# Altium schematic symbol library RF.Transformers.SchLib: 7 symbols
Pins are listed as number, name and electrical type; pins without a type are passive.

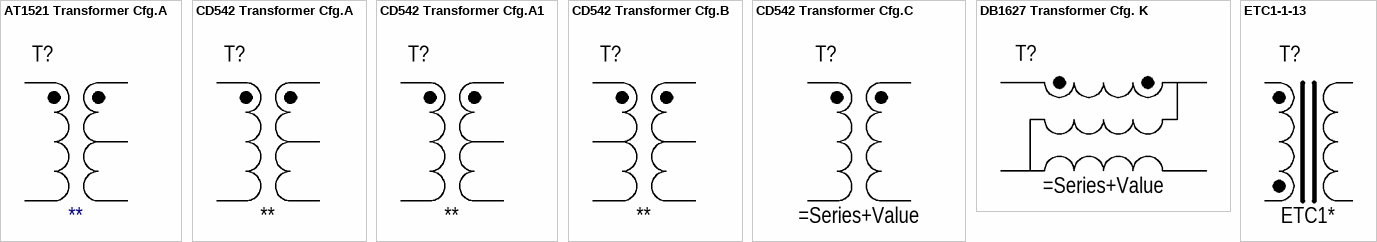
[diagram p0: symbols AT1521 Transformer Cfg.A to ETC1-1-13]

## AT1521 Transformer Cfg.A
designator T?, comment **
RF Transformer, AT1521 Package, Pin Configuration A; Series: *; Value: *
pins: 1 SecDot, 2 SecCT, 3 Sec, 4 Prim, 6 PrimDot

## CD542 Transformer Cfg.A
designator T?, comment **
RF Transformer, CD542 Package, Pin Configuration A; Series: *; Value: *
pins: 1 Primary, 3 PrimaryDot, 4 SecondaryDot, 5 SecondaryCT, 6 Secondary

## CD542 Transformer Cfg.A1
designator T?, comment **
RF Transformer, CD542 Package, Pin Configuration A1; Series: *; Value: *
pins: 1 Pimary, 2 SecondaryCT, 3 PrimaryDot, 4 SecondaryDot, 6 Secondary

## CD542 Transformer Cfg.B
designator T?, comment **
RF Transformer, CD542 Package, Pin Configuration B; Series: *; Value: *
pins: 1 Primary, 2 PrimaryCT, 3 PrimaryDot, 4 SecondaryDot, 5 SecondaryCT, 6 Secondary

## CD542 Transformer Cfg.C
designator T?
RF Transformer, CD542 Package, Pin Configuration C
pins: 1 Primary, 2 NotUsed hidden to GND, 3 PrimaryDot, 4 SecondaryDot, 5 NotUsed hidden to GND, 6 Secondary

## DB1627 Transformer Cfg. K
designator T?
RF Transformer, DB1627 Package, Pin Configuration K
pins: 1 (power), 2 (power) hidden to GND, 3 (power), 4 (power), 5 (power) hidden to GND, 6 (power)

## ETC1-1-13
designator T?, comment ETC1*
E-Series Transformer, RF 1:1 Transmission Line 4.5 - 3000 MHz; Series: ETC1; Value: *
pins: 1 Primary Dot, 2 Primary, 3 Secondary, 4 GND hidden to GND, 5 Secondary Dot